# EAGLE library part ITS621L1 (library ITS621L1)
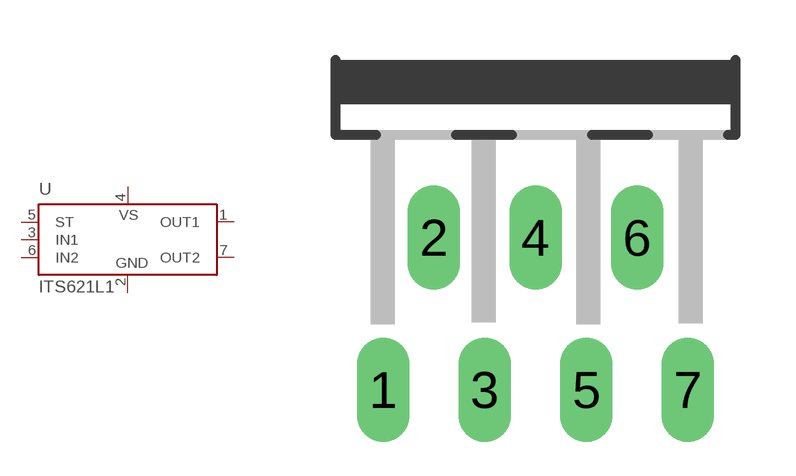
[diagram p0: symbol with the pads of ITS621L1; footprint ITS621L1]

Designator prefix -

## ITS621L1  [ITS621L1]
1  OUT1  out
2  GND  pwr
3  IN1  in
4  VS  pwr
5  ST  oc
6  IN2  in
7  OUT2  out

## Footprint ITS621L1 (pad centres in mm)
Muliwatt 11 lead
drill 0.8 long: 1 -3.81,-8.255; 2 -2.54,-4.445; 3 -1.27,-8.255; 4 0,-4.445; 5 1.27,-8.255; 6 2.54,-4.445; 7 3.81,-8.255